# Altium schematic symbol library L78M10ABDT-TR.SchLib: 1 symbol
Pins are listed as number, name and electrical type; pins without a type are passive.

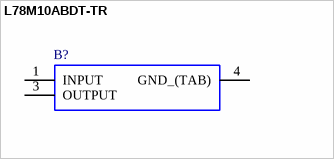
[diagram p0: symbol L78M10ABDT-TR]

## L78M10ABDT-TR
designator B?
Voltage Regulator 10V 0.5A DPAK STMicroelectronics L78M10ABDT-TR, Single Linear Voltage Regulator, 500mA 10 V, +/-2%, 3-Pin DPAK; Geometry.Height: 2.4mm; Mouser Part Number: 511-L78M10ABDT-TR; Mouser Price/Stock: https://www.mouser.co.uk/ProductDetail/STMicroelectronics/L78M10ABDT-TR?qs=22WmWNTp1rr9tcUfF7JLAg%3D%3D; Manufacturer_Name: STMicroelectronics; Manufacturer_Part_Number: L78M10ABDT-TR; Datasheet Link: http://www.st.com/web/en/resource/technical/document/datasheet/CD00000447.pdf
footprint TO228P972X240-3N
pins: 1 INPUT, 3 OUTPUT, 4 GND_(TAB)